# Altium footprint library DEMO.PcbLib: 5 footprints
Each footprint in its own frame and in the unit in brackets; x right, y up, seen from the top. Pads: shape width x height; smd on the part's side, far side on the other; paste and mask are expansions set on the pad; w line width, h text height; cw(c..) or ccw(c..) is an arc to the next point about the centre after c.
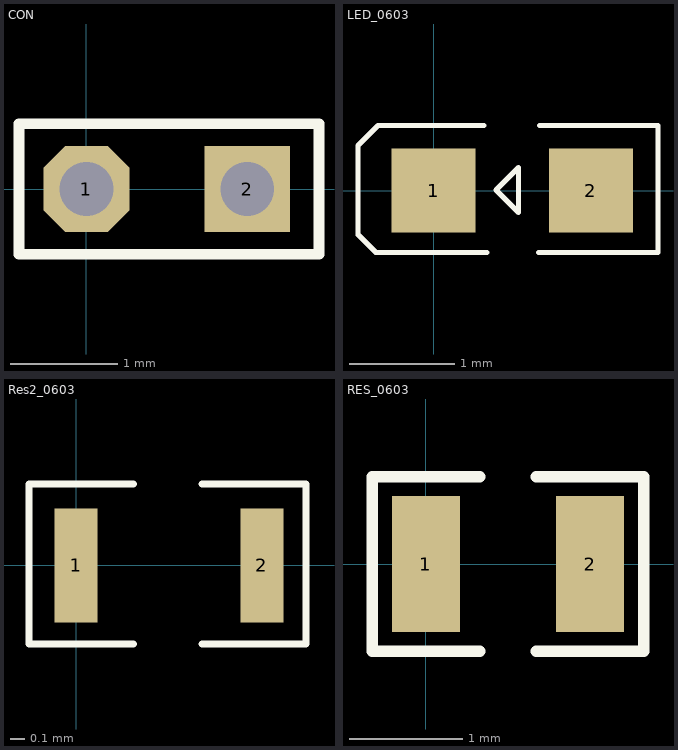
[diagram p0: the footprints below, top view; thin cyan lines are the x and y axes]

## CON [mm]
pads (2):
  oct 0.8x0.8 hole 0.5: 1(0,0)
  rect 0.8x0.8 hole 0.5: 2(1.5,0)
Top Overlay:
  lines w0.1: -0.63,-0.61 -0.63,0.61 2.17,0.61 2.17,-0.61 -0.63,-0.61

## LED_0603 [mm]
pads (2):
  rect 0.8x0.8 smd: 1(0,0) 2(1.5,0)
Top Overlay:
  lines w0.05: 0.48,0.62 -0.53,0.62 -0.72,0.43 -0.72,-0.42 -0.55,-0.59 0.51,-0.59 ; 1,-0.59 2.14,-0.59 2.14,0.62 1.01,0.62 ; 0.595,0.005 0.81,0.22 0.81,-0.21 0.595,0.005

## PCBComponent_1 [mm]

## Res2_0603 [mm]
pads (2):
  rect 0.3x0.8 smd: 1(0,0) 2(1.3,0)
Top Overlay:
  lines w0.05: 0.4,-0.55 -0.33,-0.55 -0.33,0.57 0.4,0.57 ; 0.88,-0.55 1.61,-0.55 1.61,0.57 0.88,0.57

## RES_0603 [mm]
pads (2):
  rect 0.6x1.2 smd: 1(0,0) 2(1.45,0)
Top Overlay:
  lines w0.1: 0.475,-0.77 -0.475,-0.77 -0.475,0.77 0.475,0.77 ; 0.975,-0.77 1.925,-0.77 1.925,0.77 0.975,0.77